# Altium footprint library power_component_PCB.PcbLib: 12 footprints
Each footprint in its own frame and in the unit in brackets; x right, y up, seen from the top. Pads: shape width x height; smd on the part's side, far side on the other; paste and mask are expansions set on the pad; w line width, h text height; cw(c..) or ccw(c..) is an arc to the next point about the centre after c.
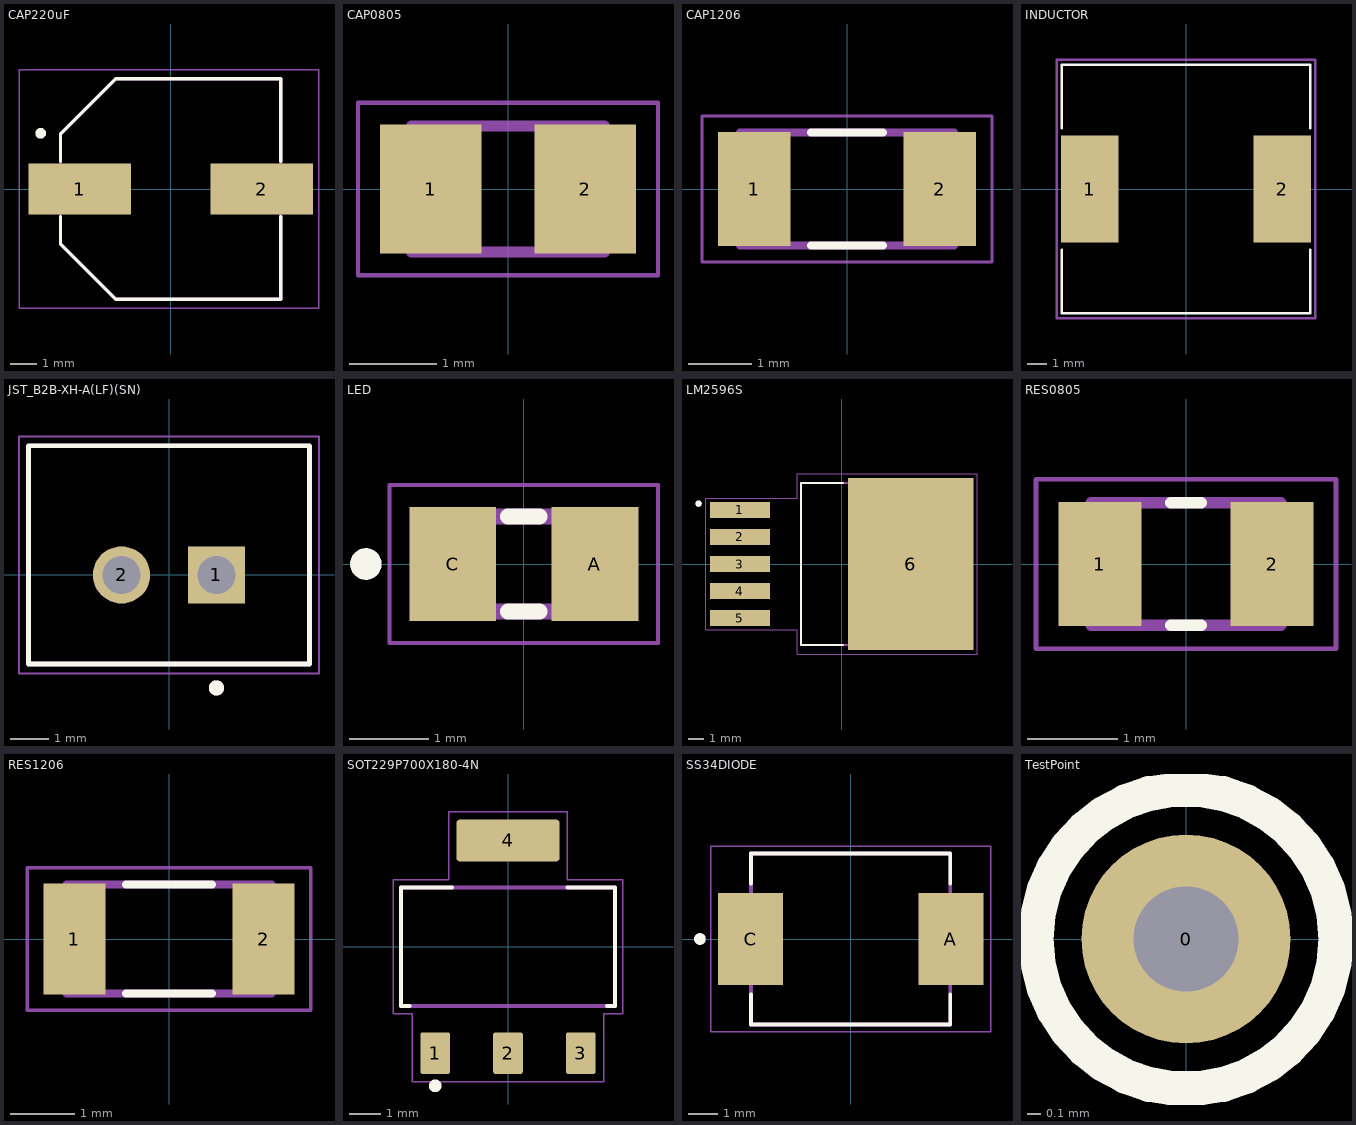
[diagram p0: the footprints below, top view; thin cyan lines are the x and y axes]

## CAP220uF [mm]
pads (2):
  rect 3.86x1.92 smd: 1(-3.429,0) 2(3.429,0)
Top Overlay:
  circle w0.2: c-4.9,2.1 r0.1
  lines w0.127: -4.15,-1.05 -4.15,-2.075 -2.075,-4.15 4.15,-4.15 4.15,-1.05 ; -4.15,1.05 -4.15,2.075 -2.075,4.15 4.15,4.15 4.15,1.05
Mechanical 13:
  lines w0.127: -4.15,-2.075 -4.15,2.075 -2.075,4.15 4.15,4.15 4.15,-4.15 -2.075,-4.15 -4.15,-2.075
Mechanical 15:
  lines w0.05: -5.715,-4.5 5.588,-4.5 5.588,4.5 -5.715,4.5 -5.715,-4.5
3D body "220uF.STEP": height 10.2, standoff 0, extent -4.95,-4.15 4.95,4.15

## CAP0805 [mm]
pads (2):
  rect 1.16x1.47 smd: 1(-0.88,0) 2(0.88,0)
Mechanical 13:
  lines w0.127: -1.1,-0.72 1.1,-0.72 1.1,0.72 -1.1,0.72 -1.1,-0.72
Mechanical 15:
  lines w0.05: -1.713,-0.983 1.713,-0.983 1.713,0.983 -1.713,0.983 -1.713,-0.983
3D body "0805.STEP": height 0.94, standoff 0, extent -1.005,-0.625 1.005,0.625

## CAP1206 [mm]
pads (2):
  rect 1.16x1.82 smd: 1(-1.475,0) 2(1.475,0)
Top Overlay:
  lines w0.127: -0.57,-0.9 0.57,-0.9 ; -0.57,0.9 0.57,0.9
Mechanical 13:
  lines w0.127: -1.7,-0.9 -1.7,0.9 1.7,0.9 1.7,-0.9 -1.7,-0.9
Mechanical 15:
  lines w0.05: -2.308,-1.158 -2.308,1.158 2.308,1.158 2.308,-1.158 -2.308,-1.158
3D body "1206CAP.STEP": height 1.1, standoff 0, extent -1.6,-0.8 1.6,0.8

## INDUCTOR [mm]
pads (2):
  rect 2.9x5.4 smd: 1(-4.85,0) 2(4.85,0)
Top Overlay:
  lines w0.127: -6.25,-3.05 -6.25,-6.25 6.25,-6.25 6.25,-3.05 ; -6.25,3.05 -6.25,6.25 6.25,6.25 6.25,3.05
Mechanical 15:
  lines w0.127: -6.5,-6.5 -6.5,6.5 6.5,6.5 6.5,-6.5 -6.5,-6.5
3D body "inductor.stp": height 6, standoff 0, extent -6.25,-6.25 6.25,6.25

## JST_B2B-XH-A(LF)(SN) [mm]
pads (2):
  rect 1.508x1.508 hole 1: 1(1.25,0)
  round 1.508 hole 1: 2(-1.25,0)
Top Overlay:
  circle w0.2: c1.25,-2.975 r0.1
  lines w0.127: -3.7,-2.35 -3.7,3.4 3.7,3.4 3.7,-2.35 -3.7,-2.35
Mechanical 13:
  circle w0.2: c1.25,-2.975 r0.1
  lines w0.127: -3.7,-2.35 -3.7,3.4 3.7,3.4 3.7,-2.35 -3.7,-2.35
Mechanical 15:
  lines w0.05: -3.95,-2.6 -3.95,3.65 3.95,3.65 3.95,-2.6 -3.95,-2.6
3D body "step_temp.STEP": height 7, standoff -3.4, extent -3.7,-2.35 3.7,3.4

## LED [mm]
pads (2):
  rect 1.1x1.45 smd: A(0.9,0) C(-0.9,0)
Top Overlay:
  circle w0.2: c-2,0 r0.1
  lines w0.2: -0.2,-0.6 0.2,-0.6 ; -0.2,0.6 0.2,0.6
Mechanical 13:
  region: 1,-0.6 0.5,-0.6 0.5,0.6 1,0.6
  region: -0.5,-0.6 -1,-0.6 -1,0.6 -0.5,0.6
  lines w0.2: -1,-0.6 -1,0.6 1,0.6 1,-0.6 -1,-0.6
Mechanical 15:
  lines w0.05: -1.7,-1 -1.7,1 1.7,1 1.7,-1 -1.7,-1
3D body "led0805.STEP": height 0.8, standoff 0, extent -1,-0.625 1,0.625

## LM2596S [mm]
pads (6):
  rect 3.79x0.99 smd: 1(-6.4,3.4) 2(-6.4,1.7) 3(-6.4,0) 4(-6.4,-1.7) 5(-6.4,-3.4)
  rect 7.88x10.84 smd paste-6: 6(4.35,0)
Top Overlay:
  circle w0.2: c-9,3.8 r0.1
  lines w0.127: 0.09,-5.08 -2.553,-5.08 -2.553,5.08 0.09,5.08
Top Paste:
  region: 5.11,0.28 3.59,0.28 3.59,1.53 5.11,1.53
  region: 2.48,0.28 0.96,0.28 0.96,1.53 2.48,1.53
  region: 7.74,0.28 6.22,0.28 6.22,1.53 7.74,1.53
  region: 5.11,2.09 3.59,2.09 3.59,3.34 5.11,3.34
  region: 2.48,2.09 0.96,2.09 0.96,3.34 2.48,3.34
  region: 7.74,2.09 6.22,2.09 6.22,3.34 7.74,3.34
  region: 5.11,3.9 3.59,3.9 3.59,5.15 5.11,5.15
  region: 2.48,3.9 0.96,3.9 0.96,5.15 2.48,5.15
  region: 7.74,3.9 6.22,3.9 6.22,5.15 7.74,5.15
  region: 5.11,-1.53 3.59,-1.53 3.59,-0.28 5.11,-0.28
  region: 2.48,-1.53 0.96,-1.53 0.96,-0.28 2.48,-0.28
  region: 7.74,-1.53 6.22,-1.53 6.22,-0.28 7.74,-0.28
  region: 5.11,-3.34 3.59,-3.34 3.59,-2.09 5.11,-2.09
  region: 2.48,-3.34 0.96,-3.34 0.96,-2.09 2.48,-2.09
  region: 7.74,-3.34 6.22,-3.34 6.22,-2.09 7.74,-2.09
  region: 5.11,-5.15 3.59,-5.15 3.59,-3.9 5.11,-3.9
  region: 2.48,-5.15 0.96,-5.15 0.96,-3.9 2.48,-3.9
  region: 7.74,-5.15 6.22,-5.15 6.22,-3.9 7.74,-3.9
Mechanical 13:
  circle w0.2: c-9,3.8 r0.1
  lines w0.127: -2.553,-5.08 6.368,-5.08 6.368,5.08 -2.553,5.08 -2.553,-5.08
Mechanical 15:
  lines w0.05: -8.545,-4.145 -8.545,4.145 -2.803,4.145 -2.803,5.67 8.54,5.67 8.54,-5.67 -2.803,-5.67 -2.803,-4.145 -8.545,-4.145
3D body "2596.STEP": height 4.65, standoff -0.15, extent -7.175,-5.08 7.175,5.08

## RES0805 [mm]
pads (2):
  rect 0.92x1.38 smd: 1(-0.955,0) 2(0.955,0)
Top Overlay:
  lines w0.127: -0.17,-0.68 0.17,-0.68 ; -0.17,0.68 0.17,0.68
Mechanical 13:
  lines w0.127: -1.05,-0.68 -1.05,0.68 1.05,0.68 1.05,-0.68 -1.05,-0.68
Mechanical 15:
  lines w0.05: -1.665,-0.94 -1.665,0.94 1.665,0.94 1.665,-0.94 -1.665,-0.94
3D body "res0805.STEP": height 0.6, standoff 0, extent -1,-0.625 1,0.625

## RES1206 [mm]
pads (2):
  rect 0.97x1.73 smd: 1(-1.48,0) 2(1.48,0)
Top Overlay:
  lines w0.127: -0.67,-0.85 0.67,-0.85 ; -0.67,0.85 0.67,0.85
Mechanical 13:
  lines w0.127: -1.6,-0.85 -1.6,0.85 1.6,0.85 1.6,-0.85 -1.6,-0.85
Mechanical 15:
  lines w0.05: -2.215,-1.115 -2.215,1.115 2.215,1.115 2.215,-1.115 -2.215,-1.115
3D body "1206RES.STEP": height 0.65, standoff 0, extent -1.55,-0.8 1.55,0.8

## SOT229P700X180-4N [mm]
pads (4):
  rrect15% 0.93x1.31 smd: 1(-2.29,-3.345) 2(0,-3.345) 3(2.29,-3.345)
  rrect15% 3.24x1.31 smd: 4(0,3.345)
Top Overlay:
  circle w0.2: c-2.29,-4.373 r0.1
  lines w0.127: -3.1,-1.86 -3.36,-1.86 -3.36,1.86 -1.76,1.86 ; 1.87,1.86 3.36,1.86 3.36,-1.86 3.11,-1.86
Mechanical 13:
  lines w0.127: -3.36,-1.86 3.36,-1.86 3.36,1.86 -3.36,1.86 -3.36,-1.86
Mechanical 15:
  lines w0.05: -3.61,-2.11 -3.01,-2.11 -3.01,-4.25 3.01,-4.25 3.01,-2.11 3.61,-2.11 3.61,2.11 1.87,2.11 1.87,4.25 -1.87,4.25 -1.87,2.11 -3.61,2.11 -3.61,-2.11
3D body "AMS1117.STEP": height 1.77, standoff -0.04, extent -3.251,-3.499 3.251,3.499

## SS34DIODE [mm]
pads (2):
  rect 2.25x3.18 smd: A(3.455,0) C(-3.455,0)
Top Overlay:
  circle w0.2: c-5.2,0 r0.1
  lines w0.127: -3.437,-1.91 -3.437,-2.95 3.437,-2.95 3.437,-1.91 ; -3.437,1.91 -3.437,2.95 3.437,2.95 3.437,1.91
Mechanical 13:
  circle w0.2: c-5.2,0 r0.1
  lines w0.127: -3.437,-2.95 3.437,-2.95 3.437,2.95 -3.437,2.95 -3.437,-2.95
Mechanical 15:
  lines w0.05: -4.83,-3.2 -4.83,3.2 4.83,3.2 4.83,-3.2 -4.83,-3.2
3D body "SS34.STEP": height 2.5, standoff 0, extent -3.95,-2.9 3.95,2.9

## TestPoint [mil]
pads (1):
  round 60 hole 30: 0(0,0)
Top Overlay:
  circle w10: c0,0 r43.01